# Altium footprint library PCB.PcbLib: 20 footprints (part 2 of 2)
Each footprint in its own frame and in the unit in brackets; x right, y up, seen from the top. Pads: shape width x height; smd on the part's side, far side on the other; paste and mask are expansions set on the pad; w line width, h text height; cw(c..) or ccw(c..) is an arc to the next point about the centre after c.
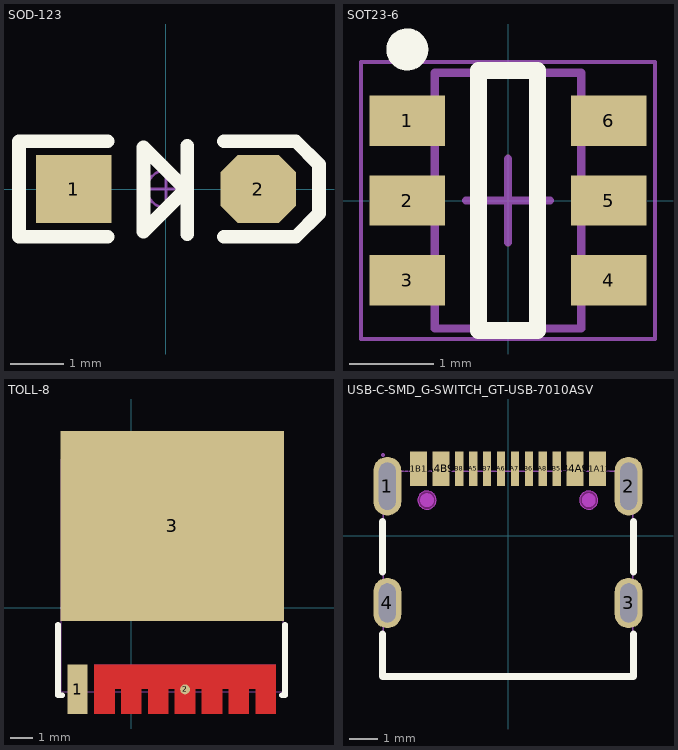
[diagram p1: the footprints below, top view; thin cyan lines are the x and y axes]

## SOD-123 [mil] "2.7x1.6X1.1mm（长宽高，不包括引脚）"
height 43.31
pads (2):
  rect 55x50 smd: 1(-67.5,0)
  oct 55x50 smd: 2(67.5,0)
Top Overlay:
  lines w10: -42.5,-35 -107.5,-35 -107.5,35 -42.5,35 ; 14,-0.8 -16.4,-31.2 -16.4,30.5 15.6,-1.5 ; 15.6,-33.1 15.6,31.7 ; 42.5,-35 95,-35 112,-18 112,18 95,35 42.5,35
Mechanical 15:
  circle w1.97: c0,0 r13.78
  lines w1.97: -19.68,0 19.68,0 ; 0,-19.68 0,19.68
3D body "SOD-123.STEP": height 48.03, standoff 0, extent -72.84,-31.5 72.83,31.5

## SOT23-6 [mm] "SOT-23, 6-Leads, Body 2.90x1.60mm, Pitch 0.95mm, IPC High Density   联系卖家 免费查找封装"
height 1.45
pads (6):
  rect 0.9x0.6 smd: 1(-1.2,0.95) 2(-1.2,0) 3(-1.2,-0.95) 4(1.2,-0.95) 5(1.2,0) 6(1.2,0.95)
Top Overlay:
  circle w0.25: c-1.2,1.8 r0.125
  lines w0.2: -0.35,-1.55 -0.35,1.55 0.35,1.55 0.35,-1.55 -0.35,-1.55
Mechanical 13:
  lines w0.1: -0.875,-1.525 0.875,-1.525 0.875,1.525 -0.875,1.525 -0.875,-1.525
Mechanical 15:
  lines w0.05: -1.75,-1.65 1.75,-1.65 1.75,1.65 -1.75,1.65 -1.75,-1.65
  lines w0.1: -0.5,0 0.5,0 ; 0,-0.5 0,0.5
3D body "SOT23-6.STEP": height 1.15, standoff -0.03, extent -1.403,-1.5 1.404,1.5

## TOLL-8 [mm]
height 1.1
pads (3):
  rect 0.9x2.2 smd paste-100: 1(-2.4,-3.65)
  round 0.44 smd: 2(2.4,-3.65)
  rect 10x8.5 smd paste-100: 3(1.825,3.65)
Top Layer:
  region: -1.65,-2.55 -1.65,-4.75 -0.75,-4.75 -0.75,-3.615 -0.45,-3.615 -0.45,-4.75 0.45,-4.75 0.45,-3.615 0.75,-3.615 0.75,-4.75 1.65,-4.75 1.65,-3.615 1.95,-3.615 1.95,-4.75 2.85,-4.75 2.85,-3.615 3.15,-3.615 3.15,-4.75 4.05,-4.75 4.05,-3.615 4.35,-3.615 4.35,-4.75 5.25,-4.75 5.25,-3.615 5.55,-3.615 5.55,-4.75 6.45,-4.75 6.45,-3.615 6.45,-2.551 6.45,-2.55 5.55,-2.55 5.55,-2.551 5.25,-2.551 5.25,-2.55 4.35,-2.55 4.35,-2.551 4.05,-2.551 4.05,-2.55 3.15,-2.55 3.15,-2.551 2.85,-2.551 2.85,-2.55 1.95,-2.55 1.95,-2.551 1.65,-2.551 1.65,-2.55 0.75,-2.55 0.75,-2.551 0.45,-2.551 0.45,-2.55 -0.45,-2.55 -0.45,-2.551 -0.75,-2.551 -0.75,-2.55 -1.65,-2.55
Top Overlay:
  lines w0.254: -3.275,-0.76 -3.275,-3.91 -3.081,-3.91 ; 6.731,-3.91 6.865,-3.91 6.865,-0.76
Top Paste:
  region: -3.175,7.9 6.825,7.9 6.825,-0.6 -3.175,-0.6
  region: -2.85,-2.55 -1.95,-2.55 -1.95,-4.75 -2.85,-4.75
  region: -1.65,-2.55 -1.65,-4.75 -0.75,-4.75 -0.75,-3.615 -0.45,-3.615 -0.45,-4.75 0.45,-4.75 0.45,-3.615 0.75,-3.615 0.75,-4.75 1.65,-4.75 1.65,-3.615 1.95,-3.615 1.95,-4.75 2.85,-4.75 2.85,-3.615 3.15,-3.615 3.15,-4.75 4.05,-4.75 4.05,-3.615 4.35,-3.615 4.35,-4.75 5.25,-4.75 5.25,-3.615 5.55,-3.615 5.55,-4.75 6.45,-4.75 6.45,-3.615 6.45,-2.551 6.45,-2.55 5.55,-2.55 5.55,-2.551 5.25,-2.551 5.25,-2.55 4.35,-2.55 4.35,-2.551 4.05,-2.551 4.05,-2.55 3.15,-2.55 3.15,-2.551 2.85,-2.551 2.85,-2.55 1.95,-2.55 1.95,-2.551 1.65,-2.551 1.65,-2.55 0.75,-2.55 0.75,-2.551 0.45,-2.551 0.45,-2.55 -0.45,-2.55 -0.45,-2.551 -0.75,-2.551 -0.75,-2.55 -1.65,-2.55
Mechanical 15:
  region: -1.65,-2.55 -1.65,-3.615 -1.55,-3.615 -1.55,-4.4 -0.85,-4.4 -0.85,-3.615 -0.35,-3.615 -0.35,-4.4 0.35,-4.4 0.35,-3.615 0.85,-3.615 0.85,-4.4 1.55,-4.4 1.55,-3.615 2.05,-3.615 2.05,-4.4 2.75,-4.4 2.75,-3.615 3.25,-3.615 3.25,-4.4 3.95,-4.4 3.95,-3.615 4.45,-3.615 4.45,-4.4 5.15,-4.4 5.15,-3.615 5.65,-3.615 5.65,-4.4 6.35,-4.4 6.35,-3.615 6.45,-3.615 6.45,-2.551 -1.649,-2.551
  region: -2.75,-2.6 -2.05,-2.6 -2.05,-4.4 -2.75,-4.4
  region: -3.075,7.32 6.725,7.32 6.725,6.72 5.875,6.72 5.875,0.41 -2.225,0.41 -2.225,6.72 -3.075,6.72
  lines w0.051: -3.125,-3.76 -3.125,6.62 6.775,6.62 6.775,-3.76 -3.125,-3.76
3D body "TOLL-8_L10.4-W9.9-P1.20-LS11.7-BL_2~TOLL-8_L10.4-W9.9-P1.20-LS11.7-BL_2~LBb8.STEP": height 2.32, standoff 0, extent -3.125,-4.36 6.775,7.22

## USB-C-SMD_G-SWITCH_GT-USB-7010ASV [mm]
pads (16):
  oval 1x2.1 hole 0.6 slot 1.7 at 90 deg paste-2539.97: 1(-4.32,1.78) 2(4.32,1.78)
  oval 1x1.8 hole 0.6 slot 1.4 at 90 deg paste-2539.97: 3(4.32,-2.4) 4(-4.32,-2.4)
  rect 0.6x1.24 smd paste-100: A1B12(-3.2,2.4) A4B9(-2.4,2.4) B1A12(3.2,2.4) B4A9(2.4,2.4)
  rect 0.3x1.24 smd paste-100: A5(-1.25,2.4) A6(-0.25,2.4) A7(0.25,2.4) A8(1.25,2.4) B5(1.75,2.4) B6(0.75,2.4) B7(-0.75,2.4) B8(-1.75,2.4)
Top Overlay:
  lines w0.254: -4.5,-3.509 -4.5,-5.03 4.5,-5.03 4.5,-3.509 ; -4.5,-1.292 -4.5,0.521 ; 4.5,-1.292 4.5,0.521
Top Paste:
  drawing of 16 lines, arcs and shapes, not listed
Keep-Out Layer:
  circle w0.003: c-2.9,1.28 r0.325
  circle w0.003: c2.89,1.28 r0.325
  region: -2.575,1.28 -2.575,1.215 -2.624,1.096 -2.716,1.005 -2.835,0.955 -2.965,0.955 -3.084,1.005 -3.175,1.096 -3.225,1.215 -3.225,1.28 -3.225,1.345 -3.175,1.464 -3.084,1.556 -2.965,1.605 -2.835,1.605 -2.716,1.556 -2.624,1.464 -2.575,1.345 -2.575,1.28
  region: -2.575,1.28 -2.575,1.215 -2.624,1.096 -2.716,1.005 -2.835,0.955 -2.965,0.955 -3.084,1.005 -3.175,1.096 -3.225,1.215 -3.225,1.28 -3.225,1.345 -3.175,1.464 -3.084,1.556 -2.965,1.605 -2.835,1.605 -2.716,1.556 -2.624,1.464 -2.575,1.345 -2.575,1.28
  region: 3.215,1.28 3.215,1.215 3.166,1.096 3.074,1.005 2.955,0.955 2.825,0.955 2.706,1.005 2.614,1.096 2.565,1.215 2.565,1.28 2.565,1.345 2.614,1.464 2.706,1.556 2.825,1.605 2.955,1.605 3.074,1.556 3.166,1.464 3.215,1.345 3.215,1.28
  region: 3.215,1.28 3.215,1.215 3.166,1.096 3.074,1.005 2.955,0.955 2.825,0.955 2.706,1.005 2.614,1.096 2.565,1.215 2.565,1.28 2.565,1.345 2.614,1.464 2.706,1.556 2.825,1.605 2.955,1.605 3.074,1.556 3.166,1.464 3.215,1.345 3.215,1.28
Mechanical 1:
  circle w0.003: c-2.9,1.28 r0.325
  circle w0.003: c2.89,1.28 r0.325
Mechanical 4:
  circle w0.25: c-2.9,1.28 r0.125
  circle w0.25: c2.89,1.28 r0.125
Mechanical 7:
  lines w0.051: -4.47,-5.03 4.47,-5.03 4.47,2.32 -4.47,2.32 -4.47,-5.03
Mechanical 9:
  region: -4.41,2.9 -4.41,2.875 -4.445,2.84 -4.495,2.84 -4.53,2.875 -4.53,2.9 -4.53,2.925 -4.495,2.96 -4.445,2.96 -4.41,2.925 -4.41,2.9
Mechanical 10:
  region: -4.47,-2 -4.17,-2 -4.17,-2.8 -4.47,-2.8
  region: 4.17,-2 4.47,-2 4.47,-2.8 4.17,-2.8
  region: -4.47,2.33 -4.17,2.33 -4.17,1.23 -4.47,1.23
  region: 4.17,2.33 4.47,2.33 4.47,1.23 4.17,1.23
  region: -3.43,2.9 -2.97,2.9 -2.97,2.1 -3.43,2.1
  region: -2.63,2.9 -2.17,2.9 -2.17,2.1 -2.63,2.1
  region: 2.97,2.9 3.43,2.9 3.43,2.1 2.97,2.1
  region: 2.17,2.9 2.63,2.9 2.63,2.1 2.17,2.1
  region: 1.63,2.9 1.87,2.9 1.87,2.1 1.63,2.1
  region: 1.13,2.9 1.37,2.9 1.37,2.1 1.13,2.1
  region: 0.63,2.9 0.87,2.9 0.87,2.1 0.63,2.1
  region: 0.13,2.9 0.37,2.9 0.37,2.1 0.13,2.1
  region: -0.37,2.9 -0.13,2.9 -0.13,2.1 -0.37,2.1
  region: -0.87,2.9 -0.63,2.9 -0.63,2.1 -0.87,2.1
  region: -1.37,2.9 -1.13,2.9 -1.13,2.1 -1.37,2.1
  region: -1.87,2.9 -1.63,2.9 -1.63,2.1 -1.87,2.1
3D body "未命名-EasyEDA PCB Model~REsRU1~USB-C-SMD_G-SWITCH_GT-USB-7010ASV~USB-C-SMD_G-SWITCH_GT-USB-7010ASV~Z6yE.step": height 3.24, standoff -1.42, extent -4.47,-4.966 4.47,2.934